# Altium integrated library Lattice ispPAC.IntLib: 5 symbols
Pins are listed as number, name and electrical type; pins without a type are passive.

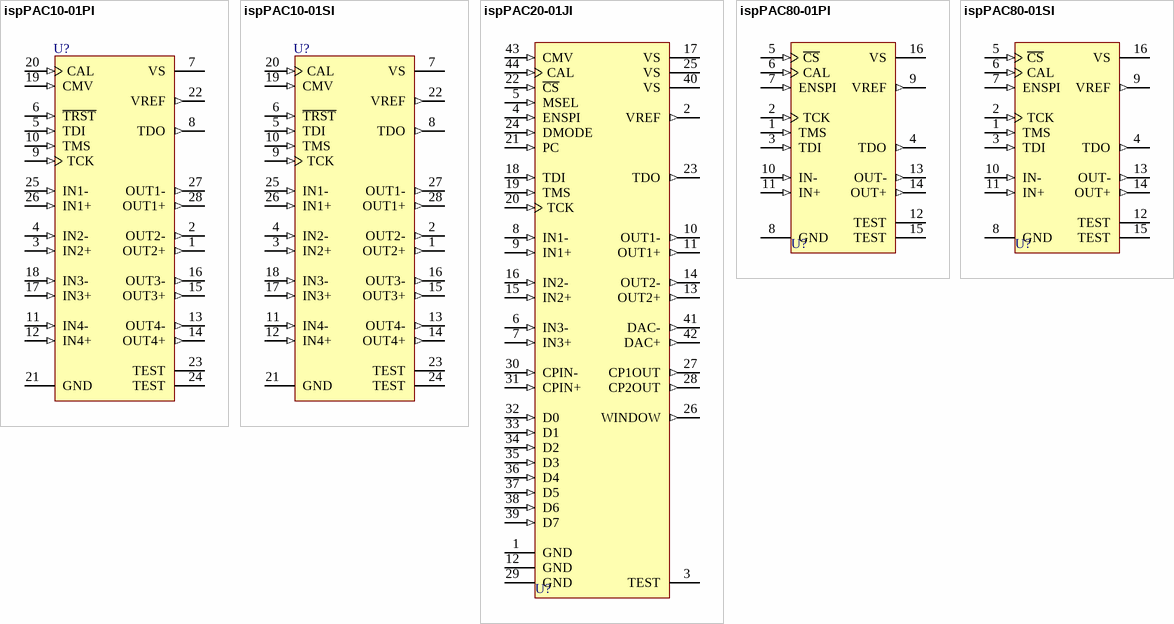
[diagram p0: symbols ispPAC10-01PI to ispPAC80-01SI]

## ispPAC10-01PI
designator U?
In-System Programmable Analog Circuit; Published: 17-Jul-2002; LatestRevisionDate: 04-Mar-2005; LatestRevisionNote: Stylized 3D Model Added.; DatasheetVersion: Sep-2000; PackageVersion: pkg_32, Aug-2005; PackageReference: PDIP28; Publisher: Altium Limited; PackageDescription: DIP; 28 Leads; Row Spacing 7.62 mm; Pitch 2.54 mm; ComponentLink1Description: Manufacturer Link; ComponentLink1URL: http://www.latticesemi.com/products/ispPAC/10/index.cfm; ComponentLink2Description: Datasheet; ComponentLink2URL: http://www.latticesemi.com/account/_download.cfm?AMID=1099; ComponentLink3Description: Lattice Login; ComponentLink3URL: http://www.latticesemi.com/account/login.cfm
footprint PDIP28 (DIP; 28 Leads; Row Spacing 7.62 mm; Pitch 2.54 mm)
3D model PDIP-28 (DIP; 28 Leads; Row Spacing 7.62 mm; Pitch 2.54 mm)
pins: 1 OUT2+ (out), 2 OUT2- (out), 3 IN2+ (in), 4 IN2- (in), 5 TDI (in), 6 ~{TRST} (in), 7 VS (power), 8 TDO (out), 9 TCK (in), 10 TMS (in), 11 IN4- (in), 12 IN4+ (in), 13 OUT4- (out), 14 OUT4+ (out), 15 OUT3+ (out), 16 OUT3- (out), 17 IN3+ (in), 18 IN3- (in), 19 CMV (in), 20 CAL (in), 21 GND (power), 22 VREF (out), 23 TEST, 24 TEST, 25 IN1- (in), 26 IN1+ (in), 27 OUT1- (out), 28 OUT1+ (out)

## ispPAC10-01SI
designator U?
In-System Programmable Analog Circuit; Published: 17-Jul-2002; LatestRevisionDate: 13-Apr-2006; LatestRevisionNote: IPC-7351 Footprint Added.; DatasheetVersion: Sep-2000; PackageVersion: pkg_32, Aug-2005; PackageReference: SOIC28; Publisher: Altium Limited; PackageDescription: 28-Pin Small Outline Integrated Circuit 1.27 mm Pitch; ComponentLink1Description: Manufacturer Link; ComponentLink1URL: http://www.latticesemi.com/products/ispPAC/10/index.cfm; ComponentLink2Description: Datasheet; ComponentLink2URL: http://www.latticesemi.com/account/_download.cfm?AMID=1099+GS6; ComponentLink3Description: Lattice Login; ComponentLink3URL: http://www.latticesemi.com/account/login.cfm
footprint SOIC28_N (SOIC, 28-Leads, Body 17.9x7.5mm, Pitch 1.27mm, IPC Medium Density)
footprint SOIC28_L (SOIC, 28-Leads, Body 17.9x7.5mm, Pitch 1.27mm, IPC High Density)
footprint SOIC28_M (SOIC, 28-Leads, Body 17.9x7.5mm, Pitch 1.27mm, IPC Low Density)
3D model SOIC-28 (28-Pin Small Outline Integrated Circuit 1.27 mm Pitch)
pins: 1 OUT2+ (out), 2 OUT2- (out), 3 IN2+ (in), 4 IN2- (in), 5 TDI (in), 6 ~{TRST} (in), 7 VS (power), 8 TDO (out), 9 TCK (in), 10 TMS (in), 11 IN4- (in), 12 IN4+ (in), 13 OUT4- (out), 14 OUT4+ (out), 15 OUT3+ (out), 16 OUT3- (out), 17 IN3+ (in), 18 IN3- (in), 19 CMV (in), 20 CAL (in), 21 GND (power), 22 VREF (out), 23 TEST, 24 TEST, 25 IN1- (in), 26 IN1+ (in), 27 OUT1- (out), 28 OUT1+ (out)

## ispPAC20-01JI
designator U?
In-System Programmable Analog Circuit; Published: 17-Jul-2002; LatestRevisionDate: 13-Apr-2006; LatestRevisionNote: IPC-7351 Footprint Added.; DatasheetVersion: Sep-2000; PackageVersion: pkg_32, Aug-2005; PackageReference: PLCC44; Publisher: Altium Limited; PackageDescription: 44-Pin Leaded Chip Carrier 1.27 mm Pitch; Code_IPC: PLCC-44; ComponentLink1Description: Manufacturer Link; ComponentLink1URL: http://www.latticesemi.com/products/ispPAC/20/index.cfm; ComponentLink2Description: Datasheet; ComponentLink2URL: http://www.latticesemi.com/account/_download.cfm?AMID=1100; ComponentLink3Description: Lattice Login; ComponentLink3URL: http://www.latticesemi.com/account/login.cfm
footprint PLCC44_N (Leaded Chip Carrier, 44-Leads, Body 16.6x16.6mm, Pitch 1.27mm, IPC Medium Density)
footprint PLCC44_L (Leaded Chip Carrier, 44-Leads, Body 16.6x16.6mm, Pitch 1.27mm, IPC High Density)
footprint PLCC44_M (Leaded Chip Carrier, 44-Leads, Body 16.6x16.6mm, Pitch 1.27mm, IPC Low Density)
3D model 20-PLCC44 (44-Pin Leaded Chip Carrier 1.27 mm Pitch)
pins: 1 GND (power), 2 VREF (out), 3 TEST, 4 ENSPI (in), 5 MSEL (in), 6 IN3- (in), 7 IN3+ (in), 8 IN1- (in), 9 IN1+ (in), 10 OUT1- (out), 11 OUT1+ (out), 12 GND (power), 13 OUT2+ (out), 14 OUT2- (out), 15 IN2+ (in), 16 IN2- (in), 17 VS (power), 18 TDI (in), 19 TMS (in), 20 TCK (in), 21 PC (in), 22 ~{CS} (in), 23 TDO (out), 24 DMODE (in), 25 VS (power), 26 WINDOW (out), 27 CP1OUT (out), 28 CP2OUT (out), 29 GND (power), 30 CPIN- (in), 31 CPIN+ (in), 32 D0 (in), 33 D1 (in), 34 D2 (in), 35 D3 (in), 36 D4 (in), 37 D5 (in), 38 D6 (in), 39 D7 (in), 40 VS (power), 41 DAC- (out), 42 DAC+ (out), 43 CMV (in), 44 CAL (in)

## ispPAC80-01PI
designator U?
In-System Programmable Analog Circuit; Published: 17-Jul-2002; LatestRevisionDate: 04-Mar-2005; LatestRevisionNote: Stylized 3D Model Added.; DatasheetVersion: Nov-2000; PackageVersion: pkg_32, Aug-2005; PackageReference: PDIP16; Publisher: Altium Limited; PackageDescription: DIP; 16 Leads; Row Spacing 7.62 mm; Pitch 2.54 mm; Code_JEDEC: MS-001-BB; ComponentLink1Description: Manufacturer Link; ComponentLink1URL: http://www.latticesemi.com/products/ispPAC/80/index.cfm; ComponentLink2Description: Datasheet; ComponentLink2URL: http://www.latticesemi.com/account/_download.cfm?AMID=1252; ComponentLink3Description: Lattice Login; ComponentLink3URL: http://www.latticesemi.com/account/login.cfm
footprint PDIP16 (DIP; 16 Leads; Row Spacing 7.62 mm; Pitch 2.54 mm)
3D model PDIP-16 (DIP; 16 Leads; Row Spacing 7.62 mm; Pitch 2.54 mm)
pins: 1 TMS (in), 2 TCK (in), 3 TDI (in), 4 TDO (out), 5 ~{CS} (in), 6 CAL (in), 7 ENSPI (in), 8 GND (power), 9 VREF (out), 10 IN- (in), 11 IN+ (in), 12 TEST, 13 OUT- (out), 14 OUT+ (out), 15 TEST, 16 VS (power)

## ispPAC80-01SI
designator U?
In-System Programmable Analog Circuit; Published: 17-Jul-2002; LatestRevisionDate: 13-Apr-2006; LatestRevisionNote: IPC-7351 Footprint Added.; DatasheetVersion: Nov-2000; PackageVersion: pkg_32, Aug-2005; PackageReference: SOIC16; Publisher: Altium Limited; PackageDescription: 16-Pin Small Outline Integrated Circuit 1.27 mm Pitch; Code_JEDEC: MS-013-AA; Code_IPC: SOIC127P1030-16; ComponentLink1Description: Manufacturer Link; ComponentLink1URL: http://www.latticesemi.com/products/ispPAC/80/index.cfm; ComponentLink2Description: Datasheet; ComponentLink2URL: http://www.latticesemi.com/account/_download.cfm?AMID=1252; ComponentLink3Description: Lattice Login; ComponentLink3URL: http://www.latticesemi.com/account/login.cfm
footprint SOIC16_N (SOIC, 16-Leads, Body 10.3x7.5mm, Pitch 1.27mm, IPC Medium Density)
footprint SOIC16_L (SOIC, 16-Leads, Body 10.3x7.5mm, Pitch 1.27mm, IPC High Density)
footprint SOIC16_M (SOIC, 16-Leads, Body 10.3x7.5mm, Pitch 1.27mm, IPC Low Density)
3D model SOIC-16 (16-Pin Small Outline Integrated Circuit 1.27 mm Pitch)
pins: 1 TMS (in), 2 TCK (in), 3 TDI (in), 4 TDO (out), 5 ~{CS} (in), 6 CAL (in), 7 ENSPI (in), 8 GND (power), 9 VREF (out), 10 IN- (in), 11 IN+ (in), 12 TEST, 13 OUT- (out), 14 OUT+ (out), 15 TEST, 16 VS (power)